# Altium schematic symbol library LEDs.SchLib: 3 symbols
Pins are listed as number, name and electrical type; pins without a type are passive.

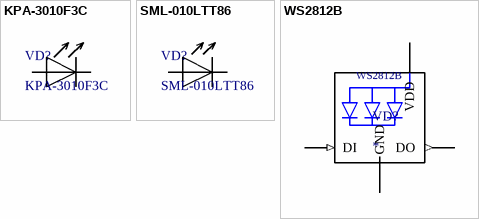
[diagram p0: symbols KPA-3010F3C to WS2812B]

## KPA-3010F3C
designator VD?
3.0 mm x 1.0 mm Right Angle Infrared Emitting Diode
footprint KPA-3010F3C
pins: A, K

## SML-010LTT86
designator VD?
LED RED CLEAR 3020 SMD
footprint SML-010LTT86
pins: A, K

## WS2812B
designator VD?
LED 5050 ShiftREG 3.7-5.3V 12mA; MP: WS2812B; MF: SparkFun Electronics; Availability: Unavailable; SnapEDA_Link: https://www.snapeda.com/parts/WS2812B/Worldsemi/view-part/1038297/?ref=snap; Price: None; Value: *; Package: None
footprint WS2812B
footprint WS2812B
pins: 1-VDD VDD (power), 2-DOUT DO (out), 3-GND GND (power), 4-DIN DI (in)